# EAGLE library part AP6503SP-13 (library OfficineRobotiche)
340kHz 23V 3A SYNCHRONOUS DC/DC BUCK CONVERTER
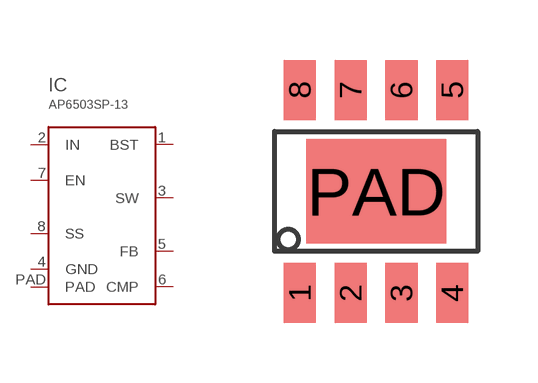
[diagram p0: symbol with the pads of SO-8EP; footprint SO-8EP]

Designator prefix IC

## AP6503SP-13'SO-8EP'  [SO-8EP]
1  BST
2  IN  pwr
3  SW
4  GND  pwr
5  FB
6  CMP
7  EN
8  SS
PAD  PAD  pwr

## Footprint SO-8EP (pad centres in mm)
SOIC8 with exposed PAD
smd 0.802 x 1.505: 1 -1.905,-2.54; 2 -0.635,-2.54; 3 0.635,-2.54; 4 1.905,-2.54; 5 1.905,2.54; 6 0.635,2.54; 7 -0.635,2.54; 8 -1.905,2.54
smd 3.501 x 2.613: PAD 0,0